# EAGLE library part WE-WPCC_3W (library Wurth_Elektronik_Passive_rev16c)
WE-WPCC Wireless Power Charging Coil Characteristics Qi-standard compliant Evaluated and approved by every major semiconductor manufacturer Litzwire used – highest Q-value available on market Applicable for up to 20 W High permeability shielding Cancels charging flux to be not coupled into sensitive components or batteries High reliable construction Applications Portable devices used in a clean area, where connectors pose a risk of polluting e.g. medical facilities, (industrial) clean rooms, mining industry Devices with a large number of mating cycles to avoid connector damage: eg. Smart watches, fitness tracker … Consumer products: eg. Digital cameras, baby phone, walkie talky, remote control, smartphone sleeves, watertight products Explosion sensitive area where the use of a physical connection is hazardous Smart sensors <http://katalog.we-online.de/media/images/eisos/UtWPCC_pf2.jpg> Details see: http://katalog.we-online.de/en/pbs/WE-WPCC_Transmitter Created by Dan Xu 2014-05-21 2014 (C) Wurth Elektronik
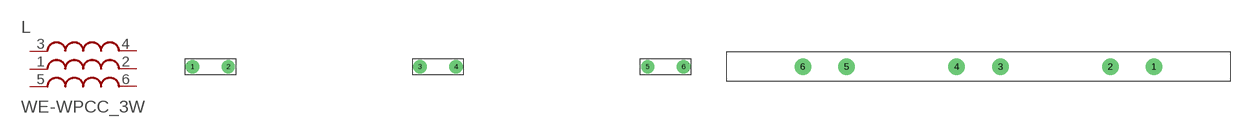
[diagram p73: symbol with the pads of WE-WPCC_13055; footprints WE-WPCC_13055, WE-WPCC_A28]

Designator prefix L

## WE-WPCC_3W_13055  [WE-WPCC_13055]
1  6  pas
2  3  pas
3  1  pas
4  2  pas
5  5  pas
6  4  pas

## WE-WPCC_3W_A28  [WE-WPCC_A28]
1  1  pas
2  2  pas
3  6  pas
4  3  pas
5  5  pas
6  4  pas

## WE-WPCC_3W_A6  [WE-WPCC_A6]
Pads as for WE-WPCC_A28

## Footprint WE-WPCC_13055 (pad centres in mm)
Wireless Power Charging Receiver Coil Size 4832 The distance between two pins of each winding is 5.0mm min and the ref distance between the pins of two windings is 43.0 mm
drill 2: 1 -55,0; 2 -47,0; 3 -4,0; 4 4,0; 5 47,0; 6 55,0

## Footprint WE-WPCC_A28 (pad centres in mm)
WE-WPCC Wireless Power Array A28 The distance between two pins is 5.0mm min
drill 2: 1 32,0; 2 24,0; 3 4,0; 4 -4,0; 5 -24,0; 6 -32,0

## Footprint WE-WPCC_A6 (pad centres in mm)
WE-WPCC Wireless Power Array A6 The distance between two pins is 5.0mm min
drill 2: 1 -55,0; 2 -47,0; 3 -4,0; 4 4,0; 5 47,0; 6 55,0